# Altium footprint library Molex Microfit PCB Lib.PcbLib: 7 footprints
Each footprint in its own frame and in the unit in brackets; x right, y up, seen from the top. Pads: shape width x height; smd on the part's side, far side on the other; paste and mask are expansions set on the pad; w line width, h text height; cw(c..) or ccw(c..) is an arc to the next point about the centre after c.
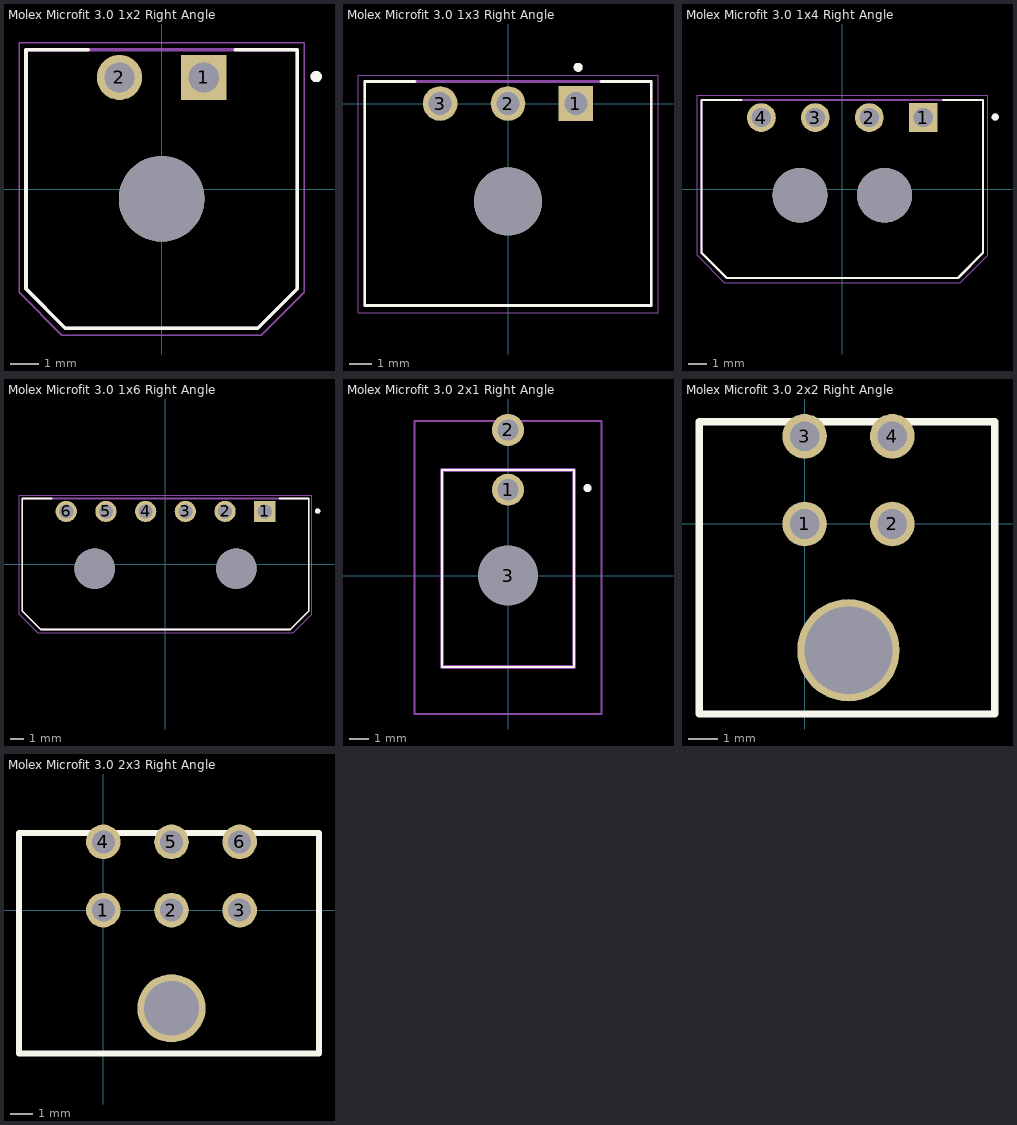
[diagram p0: the footprints below, top view; thin cyan lines are the x and y axes]

## Molex Microfit 3.0 1x2 Right Angle [mm]
pads (3):
  rect 1.605x1.605 hole 1.07: 1(1.5,3.97)
  round 1.605 hole 1.07: 2(-1.5,3.97)
  round 3.05 hole 3.05 unplated: ""(0,-0.35)
Top Overlay:
  circle w0.2: c5.5,4 r0.1
  lines w0.127: -2.62,4.95 -4.825,4.95 -4.825,-3.55 -3.425,-4.95 3.425,-4.95 4.825,-3.55 4.825,4.95 2.62,4.95
Mechanical 13:
  circle w0.2: c5.5,4 r0.1
  lines w0.127: -4.825,-3.55 -3.425,-4.95 3.425,-4.95 4.825,-3.55 4.825,4.95 -4.825,4.95 -4.825,-3.55
Mechanical 15:
  lines w0.05: -5.075,-3.675 -3.55,-5.2 3.55,-5.2 5.075,-3.675 5.075,5.2 -5.075,5.2 -5.075,-3.675
3D body "436500200--3DModel-STEP-390490.STEP": height 5.6, standoff -3.31, extent -4.825,-4.95 4.825,4.95

## Molex Microfit 3.0 1x3 Right Angle [mm]
pads (4):
  rect 1.53x1.53 hole 1.02: 1(3,0)
  round 1.53 hole 1.02: 2(0,0) 3(-3,0)
  round 3 hole 3 unplated: ""(0,-4.32)
Top Overlay:
  circle w0.2: c3.1,1.6 r0.1
  lines w0.127: -4.1,0.98 -6.325,0.98 -6.325,-8.92 6.325,-8.92 6.325,0.98 4.1,0.98
Mechanical 13:
  circle w0.2: c3.1,1.6 r0.1
  lines w0.127: -6.325,-8.92 -6.325,0.98 6.325,0.98 6.325,-8.92 -6.325,-8.92
Mechanical 15:
  lines w0.05: -6.625,-9.25 -6.625,1.25 6.625,1.25 6.625,-9.25 -6.625,-9.25
3D body "436500300.stp": height 5.6, standoff -3.31, extent -6.325,-8.963 6.325,0.937

## Molex Microfit 3.0 1x4 Right Angle [mm]
pads (6):
  rect 1.605x1.605 hole 1.07: 1(4.5,3.97)
  round 1.605 hole 1.07: 2(1.5,3.97) 3(-1.5,3.97) 4(-4.5,3.97)
  round 3.05 hole 3.05 unplated: ""(-2.35,-0.35) ""(2.35,-0.35)
Top Overlay:
  circle w0.2: c8.5,4 r0.1
  lines w0.127: -5.62,4.95 -7.825,4.95 -7.825,-3.55 -6.425,-4.95 6.425,-4.95 7.825,-3.55 7.825,4.95 5.62,4.95
Mechanical 13:
  circle w0.2: c8.5,4 r0.1
  lines w0.127: -7.825,-3.55 -7.825,4.95 7.825,4.95 7.825,-3.55 6.425,-4.95 -6.425,-4.95 -7.825,-3.55
Mechanical 15:
  lines w0.05: -8.075,-3.675 -8.075,5.2 8.075,5.2 8.075,-3.675 6.55,-5.2 -6.55,-5.2 -8.075,-3.675
3D body "436500400.stp": height 5.6, standoff -3.31, extent -7.825,-4.95 7.825,4.95

## Molex Microfit 3.0 1x6 Right Angle [mm]
pads (8):
  rect 1.605x1.605 hole 1.07: 1(7.5,3.97)
  round 1.605 hole 1.07: 2(4.5,3.97) 3(1.5,3.97) 4(-1.5,3.97) 5(-4.5,3.97) 6(-7.5,3.97)
  round 3.05 hole 3.05 unplated: ""(-5.35,-0.35) ""(5.35,-0.35)
Top Overlay:
  circle w0.2: c11.5,4 r0.1
  lines w0.127: -8.62,4.95 -10.82,4.95 -10.82,-3.55 -9.42,-4.95 9.42,-4.95 10.82,-3.55 10.82,4.95 8.62,4.95
Mechanical 13:
  circle w0.2: c11.5,4 r0.1
  lines w0.127: -10.82,-3.55 -9.42,-4.95 9.42,-4.95 10.82,-3.55 10.82,4.95 -10.82,4.95 -10.82,-3.55
Mechanical 15:
  lines w0.05: -11.07,-3.8 -9.67,-5.2 9.67,-5.2 11.07,-3.8 11.07,5.2 -11.07,5.2 -11.07,-3.8
3D body "436500600--3DModel-STEP-390490.STEP": height 5.6, standoff -3.3, extent -10.82,-4.95 10.82,4.95

## Molex Microfit 3.0 2x1 Right Angle [mm]
pads (3):
  round 1.605 hole 1.07: 1(0,4.32) 2(0,7.32)
  round 1.5 hole 3 unplated: 3(0,0)
Top Overlay:
  lines w0.1: -3.325,-4.6 3.325,-4.6 3.325,5.31 -3.325,5.31 -3.325,-4.6
  lines w0.2: 3.999,4.3 cw(c3.999,4.4) 3.999,4.5 cw(c3.999,4.4) 3.999,4.3
Mechanical 15:
  lines w0.2: -3.325,-4.6 3.325,-4.6 3.325,5.31 -3.325,5.31 -3.325,-4.6
Mechanical 20:
  lines w0.1: -4.713,-6.96 4.713,-6.96 4.713,7.763 -4.713,7.763 -4.713,-6.96
3D body "430450201.stp": height 8.79, standoff -3.16, extent -3.575,-4.637 3.575,7.602

## Molex Microfit 3.0 2x2 Right Angle [mil]
pads (5):
  round 60 hole 40: 1(0,0) 2(118.11,0) 3(0,118.11) 4(118.11,118.11)
  round 137.8 hole 118.11: ""(59.06,-170.08)
Top Overlay:
  lines w10: -141.73,-255.91 255.91,-255.91 255.91,137.8 -141.73,137.8 -141.73,-255.91
3D body "430450400.stp": height 367.52, standoff -102.95, extent -142.31,-344.09 257.29,137.8

## Molex Microfit 3.0 2x3 Right Angle [mil] "6 Pos Header Micro-Fit"
pads (7):
  round 60 hole 40: 1(0.39,0.2) 2(118.5,0.2) 3(236.61,0.2) 4(0.39,118.31) 5(118.5,118.31) 6(236.61,118.31)
  round 118.11 hole 94.88: ""(118.5,-169.88)
Top Overlay:
  lines w10: -145.67,-248.03 374.02,-248.03 374.02,129.92 374.02,133.86 -145.67,133.86 -145.67,-248.03
3D body "430450601.stp": height 347.64, standoff -122.83, extent -140.94,-351.37 376.77,130.51